# Altium schematic symbol library EEPROM.SchLib: 1 symbol
Pins are listed as number, name and electrical type; pins without a type are passive.

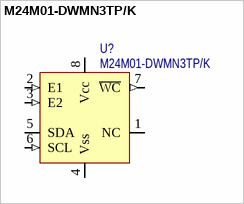
[diagram p0: symbol M24M01-DWMN3TP/K]

## M24M01-DWMN3TP/K
designator U?
EEPROM Memory IC; 1Mb (128kx8); I²C-Bus; SOIC8; Manufacturer: STMicroelectronics; ComponentLink1Description: Datasheet; ComponentLink1URL: https://www.st.com/content/ccc/resource/technical/document/datasheet/fe/8a/5d/cf/fe/3d/42/1d/DM00067067.pdf/files/DM00067067.pdf/jcr:content/translations/en.DM00067067.pdf; ComponentLink2Description: Supplier Info; ComponentLink2URL: https://www.digikey.co.uk/en/products/detail/stmicroelectronics/M24M01-DWMN3TP-K/4729233?s=N4IgTCBcDaICwE4DsBaAjHOYEoGwoDkAREAXQF8g; Manufacturer Part Number: M24M01-DWMN3TP/K; Supplier 1: Digi-Key; Supplier Part Number 1: 497-14429-1-ND; Value: M24M01-DWMN3TP/K
pins: 1 NC, 2 E1 (in), 3 E2 (in), 4 Vss (power), 5 SDA (io), 6 SCL (in), 7 ~{WC} (out), 8 Vcc (power)
1 alternate drawing of the same symbol